# Altium schematic symbol library microchip-opamp.SchLib: 4 symbols
Pins are listed as number, name and electrical type; pins without a type are passive.

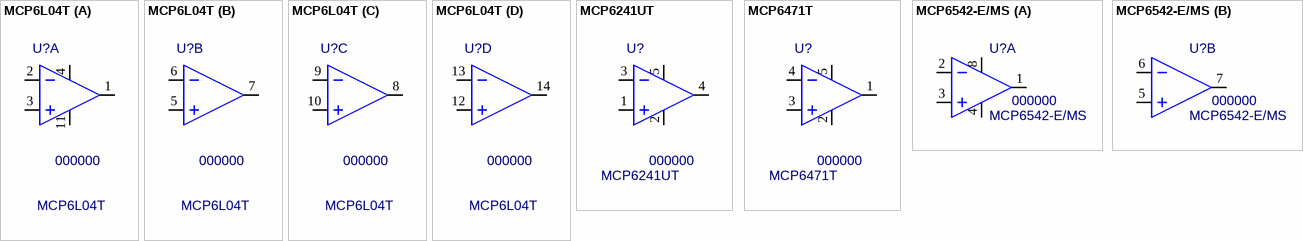
[diagram p0: symbols MCP6L04T to MCP6542-E/MS]

## MCP6L04T
designator U?, comment 000000  value MCP6L04T
Quad 1MHz, Low Voltage, Rail-to-Rail Input/Output Operational Amplifiers; PN: 000000; Package: 14-TSSOP; ExtraInfo: *
simulation model MCP6L01 (SUBCKT)
footprint TSSOP-14 (TSOP, 14-Leads, Body 5.1x4.5mm (max), Pitch 0.65mm, IPC Medium Density)
part A pins: 1 1OUT, 2 1IN-, 3 1IN+, 4 VDD (power), 11 VSS (power)
part B pins: 5 2IN+, 6 2IN-, 7 2OUT
part C pins: 8 3OUT, 9 3IN-, 10 3IN+
part D pins: 12 4IN+, 13 4IN-, 14 4OUT

## MCP6241UT
designator U?, comment 000000  value MCP6241UT
550kHz 5.5V 50uA RR Operational Amplifier; Package: SOT23-5; PN: 000000; ExtraInfo: *
footprint SOT23-5 (5-Lead Plastic Small Outline Transistor)
simulation model MCP6241 (Model Description)
pins: 1 IN+, 2 V- (power), 3 IN-, 4 OUT, 5 V+ (power)

## MCP6471T
designator U?, comment 000000  value MCP6471T
2MHz 5.5V 100uA RR Low-Input Bias Operational Amplifier; Package: SOT23-5; PN: 000000; ExtraInfo: *
footprint SOT23-5 (5-Lead Plastic Small Outline Transistor)
simulation model MCP6471 (Model Description)
pins: 1 OUT, 2 V- (power), 3 IN+, 4 IN-, 5 V+ (power)

## MCP6542-E/MS
designator U?, comment 000000  value MCP6542-E/MS
Dual Push-Pull Output Sub-Microamp Comparators; Package: 8-MSOP; PN: 000000; ExtraInfo: *
footprint MSOP-8 (TSOP, 8-Leads, Body 3.1x3.1mm (max), Pitch 0.65mm, IPC Medium Density)
part A pins: 1 OUTA, 2 VINA-, 3 VINA+, 4 VSS (power), 8 VDD (power)
part B pins: 5 VINB+, 6 VINB-, 7 OUTB